# Altium schematic symbol library MainSchlib.SchLib: 236 symbols (part 2 of 2)
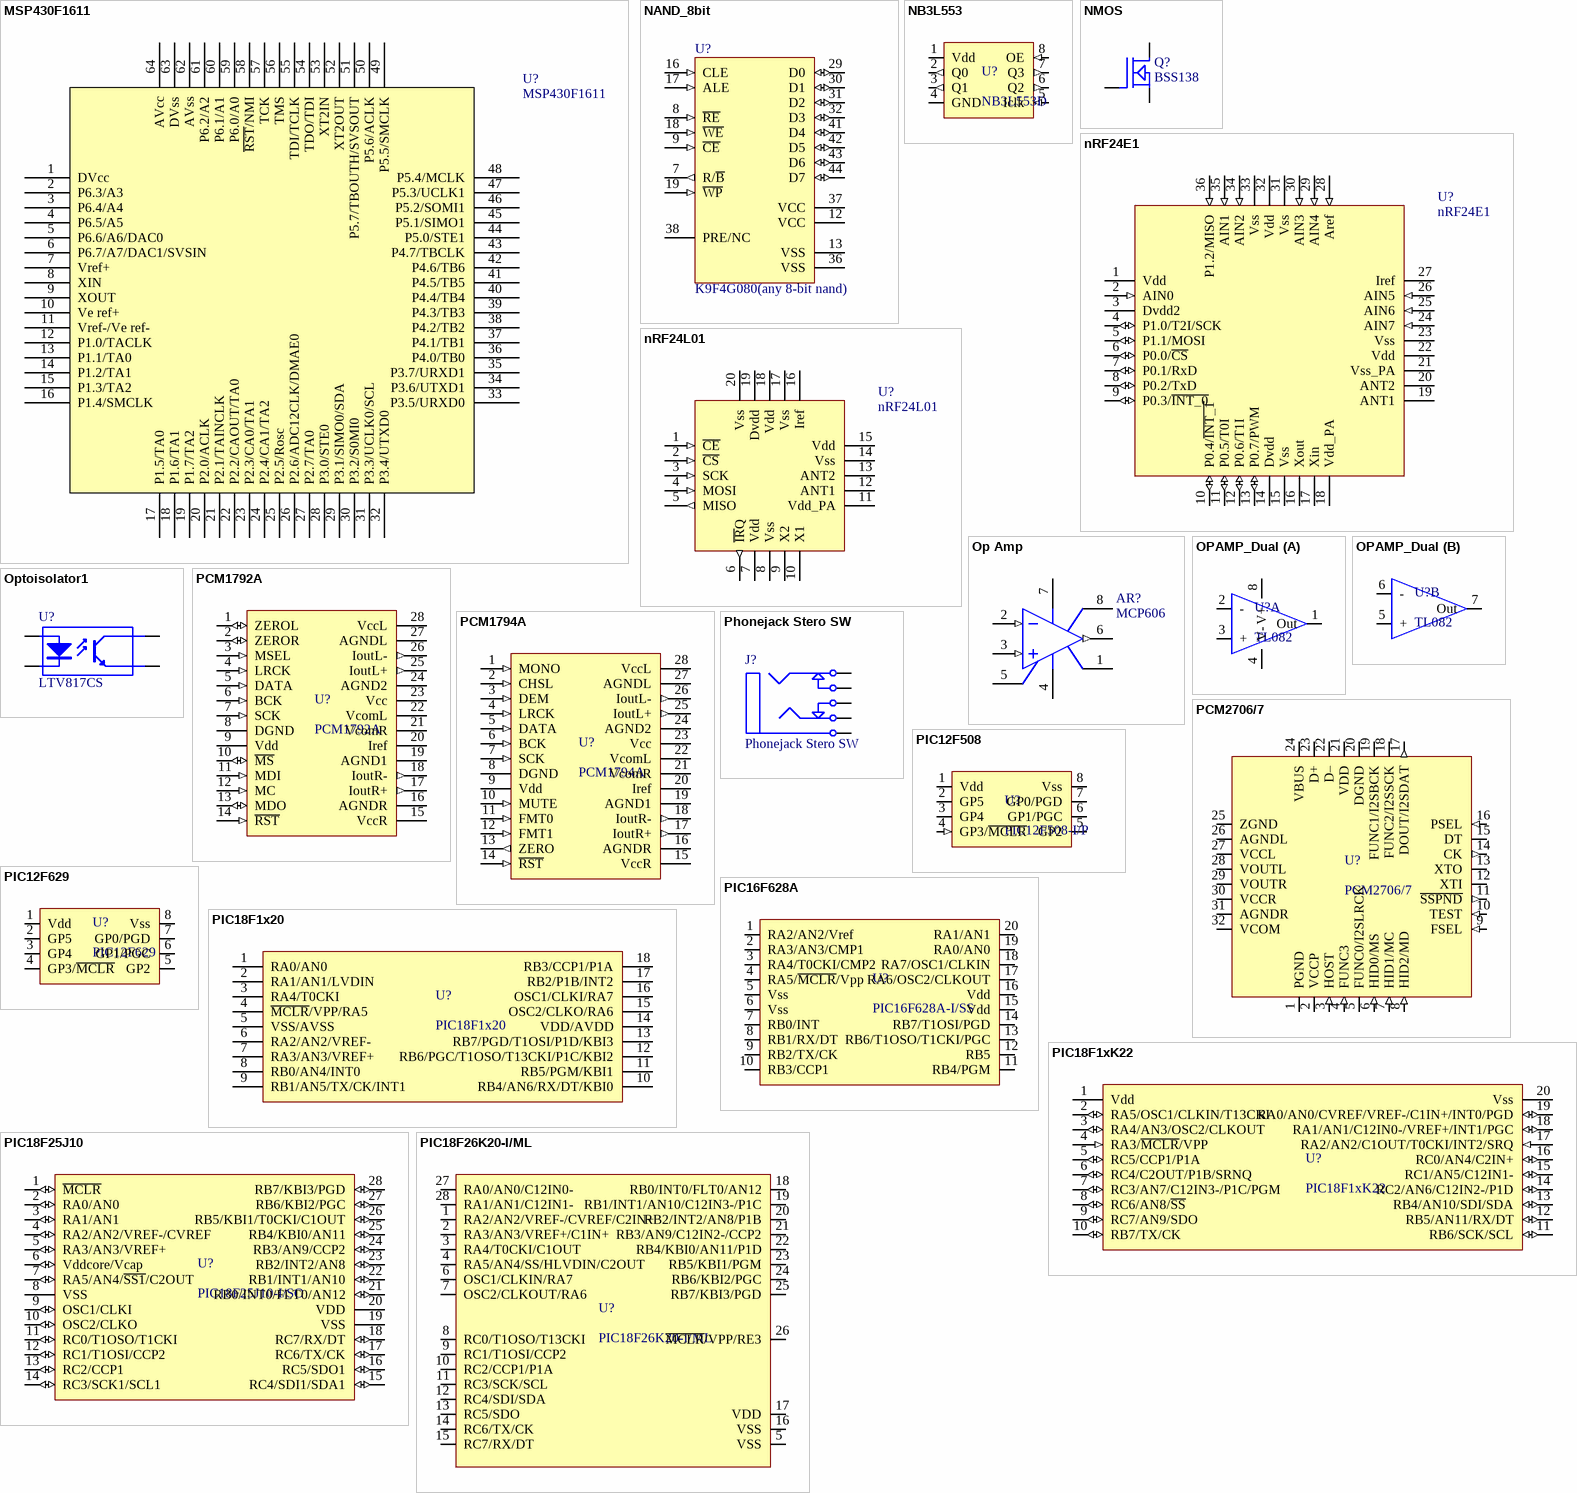
[diagram p11: symbols MSP430F1611 to PIC18F26K20-I/ML]

## PIC18F25J10
designator U?, comment PIC18F25J10-I/SO
footprint IC_SOIC-28 (for PIC18F2525-SO)
pins: 1 ~{MCLR} (io), 2 RA0/AN0 (io), 3 RA1/AN1 (io), 4 RA2/AN2/VREF-/CVREF (io), 5 RA3/AN3/VREF+ (io), 6 Vddcore/Vcap (io), 7 RA5/AN4/~{SS1}/C2OUT (io), 8 VSS (power), 9 OSC1/CLKI (io), 10 OSC2/CLKO (io), 11 RC0/T1OSO/T1CKI (io), 12 RC1/T1OSI/CCP2 (io), 13 RC2/CCP1 (io), 14 RC3/SCK1/SCL1 (io), 15 RC4/SDI1/SDA1 (io), 16 RC5/SDO1 (io), 17 RC6/TX/CK (io), 18 RC7/RX/DT (io), 19 VSS (power), 20 VDD (power), 21 RB0/INT0/FLT0/AN12 (io), 22 RB1/INT1/AN10 (io), 23 RB2/INT2/AN8 (io), 24 RB3/AN9/CCP2 (io), 25 RB4/KBI0/AN11 (io), 26 RB5/KBI1/T0CKI/C1OUT (io), 27 RB6/KBI2/PGC (io), 28 RB7/KBI3/PGD (io)

## PIC18F26K20-I/ML
designator U?
PIC18 mid-range mcu
footprint IC_QFN28-6x6
pins: 1 RA2/AN2/VREF-/CVREF/C2IN+, 2 RA3/AN3/VREF+/C1IN+, 3 RA4/T0CKI/C1OUT, 4 RA5/AN4/SS/HLVDIN/C2OUT, 5 VSS, 6 OSC1/CLKIN/RA7, 7 OSC2/CLKOUT/RA6, 8 RC0/T1OSO/T13CKI , 9 RC1/T1OSI/CCP2, 10 RC2/CCP1/P1A, 11 RC3/SCK/SCL, 12 RC4/SDI/SDA, 13 RC5/SDO, 14 RC6/TX/CK, 15 RC7/RX/DT, 16 VSS, 17 VDD, 18 RB0/INT0/FLT0/AN12, 19 RB1/INT1/AN10/C12IN3-/P1C, 20 RB2/INT2/AN8/P1B, 21 RB3/AN9/C12IN2-/CCP2, 22 RB4/KBI0/AN11/P1D, 23 RB5/KBI1/PGM, 24 RB6/KBI2/PGC, 25 RB7/KBI3/PGD, 26 ~{MCLR}/VPP/RE3, 27 RA0/AN0/C12IN0-, 28 RA1/AN1/C12IN1-

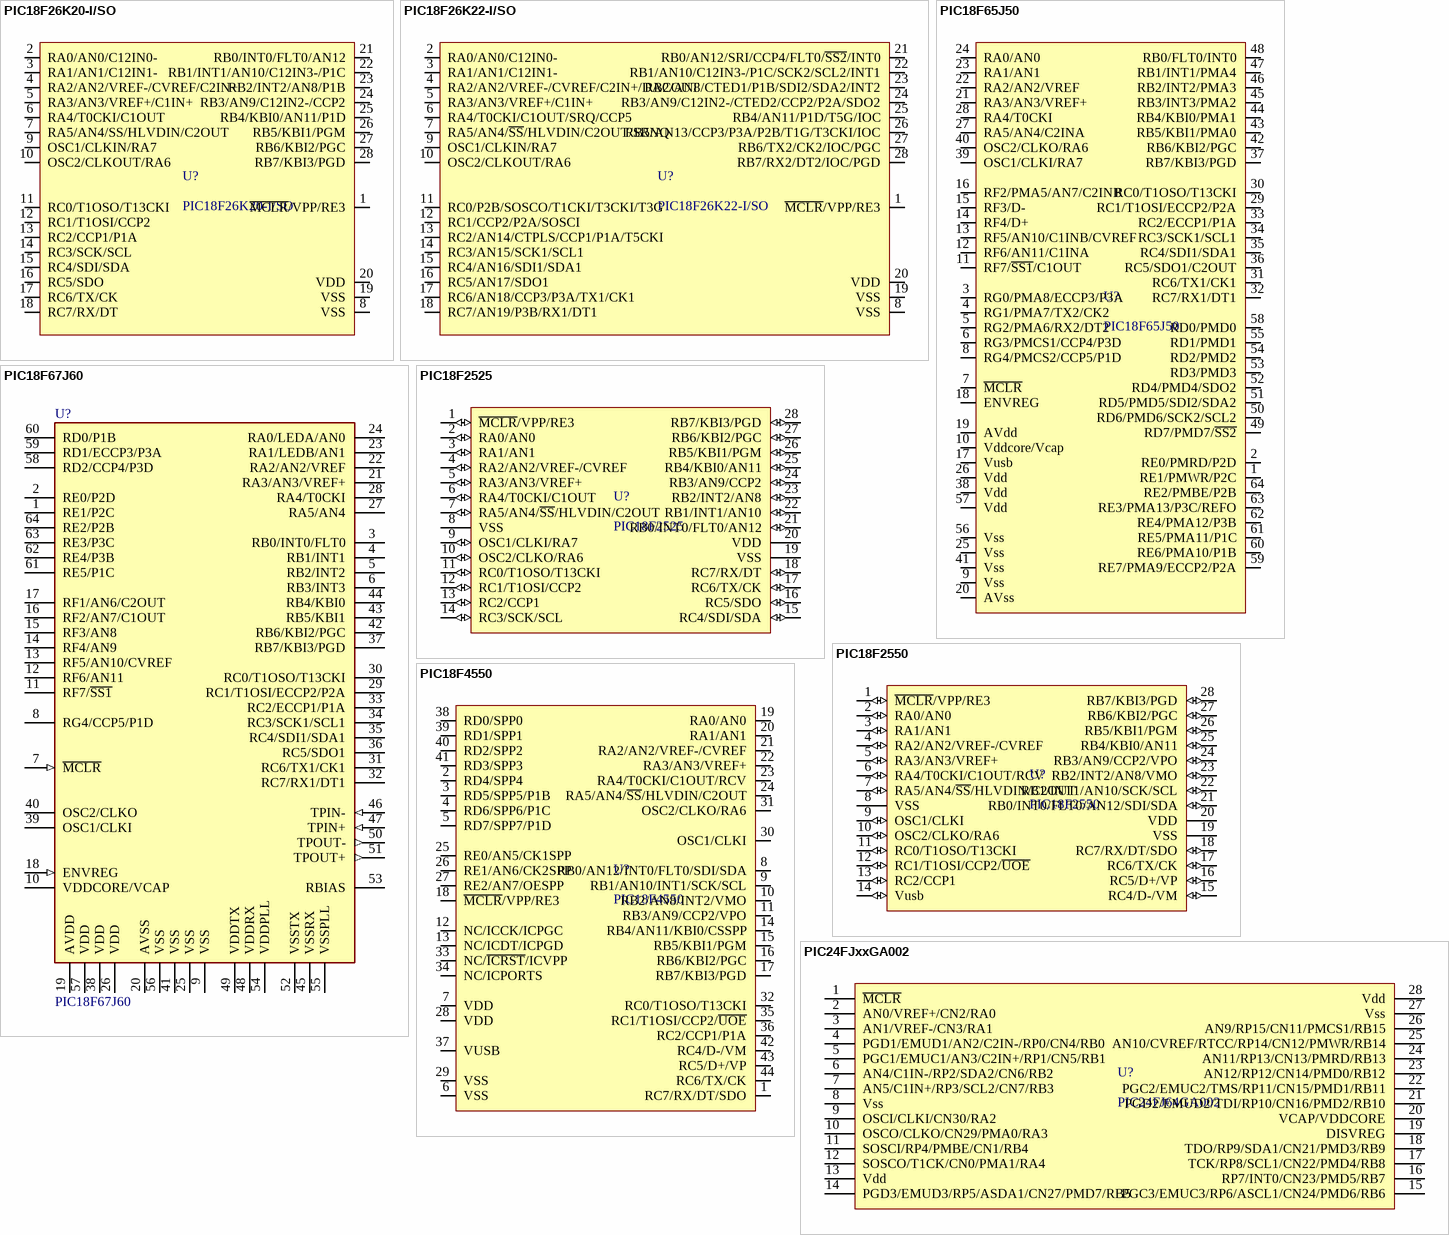
[diagram p6: symbols PIC18F26K20-I/SO to PIC24FJxxGA002]

## PIC18F26K20-I/SO
designator U?
PIC18 mid-range mcu
footprint IC_SOIC-28 (for PIC18F2525-SO)
pins: 1 ~{MCLR}/VPP/RE3, 2 RA0/AN0/C12IN0-, 3 RA1/AN1/C12IN1-, 4 RA2/AN2/VREF-/CVREF/C2IN+, 5 RA3/AN3/VREF+/C1IN+, 6 RA4/T0CKI/C1OUT, 7 RA5/AN4/SS/HLVDIN/C2OUT, 8 VSS, 9 OSC1/CLKIN/RA7, 10 OSC2/CLKOUT/RA6, 11 RC0/T1OSO/T13CKI , 12 RC1/T1OSI/CCP2, 13 RC2/CCP1/P1A, 14 RC3/SCK/SCL, 15 RC4/SDI/SDA, 16 RC5/SDO, 17 RC6/TX/CK, 18 RC7/RX/DT, 19 VSS, 20 VDD, 21 RB0/INT0/FLT0/AN12, 22 RB1/INT1/AN10/C12IN3-/P1C, 23 RB2/INT2/AN8/P1B, 24 RB3/AN9/C12IN2-/CCP2, 25 RB4/KBI0/AN11/P1D, 26 RB5/KBI1/PGM, 27 RB6/KBI2/PGC, 28 RB7/KBI3/PGD

## PIC18F26K22-I/SO
designator U?
PIC18 mid-range mcu
footprint IC_SOIC-28 (for PIC18F2525-SO)
pins: 1 ~{MCLR}/VPP/RE3, 2 RA0/AN0/C12IN0-, 3 RA1/AN1/C12IN1-, 4 RA2/AN2/VREF-/CVREF/C2IN+/DACOUT, 5 RA3/AN3/VREF+/C1IN+, 6 RA4/T0CKI/C1OUT/SRQ/CCP5, 7 RA5/AN4/~{SS}/HLVDIN/C2OUT/SRNQ, 8 VSS, 9 OSC1/CLKIN/RA7, 10 OSC2/CLKOUT/RA6, 11 RC0/P2B/SOSCO/T1CKI/T3CKI/T3G, 12 RC1/CCP2/P2A/SOSCI, 13 RC2/AN14/CTPLS/CCP1/P1A/T5CKI, 14 RC3/AN15/SCK1/SCL1, 15 RC4/AN16/SDI1/SDA1, 16 RC5/AN17/SDO1, 17 RC6/AN18/CCP3/P3A/TX1/CK1, 18 RC7/AN19/P3B/RX1/DT1, 19 VSS, 20 VDD, 21 RB0/AN12/SRI/CCP4/FLT0/~{SS2}/INT0, 22 RB1/AN10/C12IN3-/P1C/SCK2/SCL2/INT1, 23 RB2/AN8/CTED1/P1B/SDI2/SDA2/INT2, 24 RB3/AN9/C12IN2-/CTED2/CCP2/P2A/SDO2, 25 RB4/AN11/P1D/T5G/IOC, 26 RB5/AN13/CCP3/P3A/P2B/T1G/T3CKI/IOC, 27 RB6/TX2/CK2/IOC/PGC, 28 RB7/RX2/DT2/IOC/PGD

## PIC18F65J50
designator U?
footprint IC_F-QFP10X10-G64/N
pins: 1 RE1/PMWR/P2C, 2 RE0/PMRD/P2D, 3 RG0/PMA8/ECCP3/P3A, 4 RG1/PMA7/TX2/CK2, 5 RG2/PMA6/RX2/DT2, 6 RG3/PMCS1/CCP4/P3D, 7 ~{MCLR}, 8 RG4/PMCS2/CCP5/P1D, 9 Vss, 10 Vddcore/Vcap, 11 RF7/~{SS1}/C1OUT, 12 RF6/AN11/C1INA, 13 RF5/AN10/C1INB/CVREF, 14 RF4/D+, 15 RF3/D-, 16 RF2/PMA5/AN7/C2INB, 17 Vusb, 18 ENVREG, 19 AVdd, 20 AVss, 21 RA3/AN3/VREF+, 22 RA2/AN2/VREF, 23 RA1/AN1, 24 RA0/AN0, 25 Vss, 26 Vdd, 27 RA5/AN4/C2INA, 28 RA4/T0CKI, 29 RC1/T1OSI/ECCP2/P2A, 30 RC0/T1OSO/T13CKI, 31 RC6/TX1/CK1, 32 RC7/RX1/DT1, 33 RC2/ECCP1/P1A, 34 RC3/SCK1/SCL1, 35 RC4/SDI1/SDA1, 36 RC5/SDO1/C2OUT, 37 RB7/KBI3/PGD, 38 Vdd, 39 OSC1/CLKI/RA7, 40 OSC2/CLKO/RA6, 41 Vss, 42 RB6/KBI2/PGC, 43 RB5/KBI1/PMA0, 44 RB4/KBI0/PMA1, 45 RB3/INT3/PMA2, 46 RB2/INT2/PMA3, 47 RB1/INT1/PMA4, 48 RB0/FLT0/INT0, 49 RD7/PMD7/~{SS2}, 50 RD6/PMD6/SCK2/SCL2, 51 RD5/PMD5/SDI2/SDA2, 52 RD4/PMD4/SDO2, 53 RD3/PMD3, 54 RD2/PMD2, 55 RD1/PMD1, 56 Vss, 57 Vdd, 58 RD0/PMD0, 59 RE7/PMA9/ECCP2/P2A, 60 RE6/PMA10/P1B, 61 RE5/PMA11/P1C, 62 RE4/PMA12/P3B, 63 RE3/PMA13/P3C/REFO, 64 RE2/PMBE/P2B

## PIC18F67J60
designator U?
8-bit MCU
footprint IC_F-QFP10X10-G64/N
pins: 1 RE1/P2C, 2 RE0/P2D, 3 RB0/INT0/FLT0, 4 RB1/INT1, 5 RB2/INT2, 6 RB3/INT3, 7 ~{MCLR} (in), 8 RG4/CCP5/P1D, 9 VSS (power), 10 VDDCORE/VCAP (power), 11 RF7/~{SS1}, 12 RF6/AN11, 13 RF5/AN10/CVREF, 14 RF4/AN9, 15 RF3/AN8, 16 RF2/AN7/C1OUT, 17 RF1/AN6/C2OUT, 18 ENVREG (in), 19 AVDD (power), 20 AVSS (power), 21 RA3/AN3/VREF+, 22 RA2/AN2/VREF, 23 RA1/LEDB/AN1, 24 RA0/LEDA/AN0, 25 VSS (power), 26 VDD (power), 27 RA5/AN4, 28 RA4/T0CKI, 29 RC1/T1OSI/ECCP2/P2A, 30 RC0/T1OSO/T13CKI, 31 RC6/TX1/CK1, 32 RC7/RX1/DT1, 33 RC2/ECCP1/P1A, 34 RC3/SCK1/SCL1, 35 RC4/SDI1/SDA1, 36 RC5/SDO1, 37 RB7/KBI3/PGD, 38 VDD (power), 39 OSC1/CLKI, 40 OSC2/CLKO, 41 VSS (power), 42 RB6/KBI2/PGC, 43 RB5/KBI1, 44 RB4/KBI0, 45 VSSRX (power), 46 TPIN- (in), 47 TPIN+ (in), 48 VDDRX (power), 49 VDDTX (power), 50 TPOUT- (out), 51 TPOUT+ (out), 52 VSSTX (power), 53 RBIAS, 54 VDDPLL (power), 55 VSSPLL (power), 56 VSS (power), 57 VDD (power), 58 RD2/CCP4/P3D, 59 RD1/ECCP3/P3A, 60 RD0/P1B, 61 RE5/P1C, 62 RE4/P3B, 63 RE3/P3C, 64 RE2/P2B

## PIC18F2525
designator U?
footprint IC_DIP-28 (DIP28 socket)
pins: 1 ~{MCLR}/VPP/RE3 (io), 2 RA0/AN0 (io), 3 RA1/AN1 (io), 4 RA2/AN2/VREF-/CVREF (io), 5 RA3/AN3/VREF+ (io), 6 RA4/T0CKI/C1OUT (io), 7 RA5/AN4/~{SS}/HLVDIN/C2OUT (io), 8 VSS (power), 9 OSC1/CLKI/RA7 (io), 10 OSC2/CLKO/RA6 (io), 11 RC0/T1OSO/T13CKI (io), 12 RC1/T1OSI/CCP2 (io), 13 RC2/CCP1 (io), 14 RC3/SCK/SCL (io), 15 RC4/SDI/SDA (io), 16 RC5/SDO (io), 17 RC6/TX/CK (io), 18 RC7/RX/DT (io), 19 VSS (power), 20 VDD (power), 21 RB0/INT0/FLT0/AN12 (io), 22 RB1/INT1/AN10 (io), 23 RB2/INT2/AN8 (io), 24 RB3/AN9/CCP2 (io), 25 RB4/KBI0/AN11 (io), 26 RB5/KBI1/PGM (io), 27 RB6/KBI2/PGC (io), 28 RB7/KBI3/PGD (io)

## PIC18F2550
designator U?
footprint IC_SOIC-28 (for PIC18F2525-SO)
pins: 1 ~{MCLR}/VPP/RE3 (io), 2 RA0/AN0 (io), 3 RA1/AN1 (io), 4 RA2/AN2/VREF-/CVREF (io), 5 RA3/AN3/VREF+ (io), 6 RA4/T0CKI/C1OUT/RCV (io), 7 RA5/AN4/~{SS}/HLVDIN/C2OUT (io), 8 VSS (power), 9 OSC1/CLKI (io), 10 OSC2/CLKO/RA6 (io), 11 RC0/T1OSO/T13CKI (io), 12 RC1/T1OSI/CCP2/~{UOE} (io), 13 RC2/CCP1 (io), 14 Vusb (io), 15 RC4/D-/VM (io), 16 RC5/D+/VP (io), 17 RC6/TX/CK (io), 18 RC7/RX/DT/SDO (io), 19 VSS (power), 20 VDD (power), 21 RB0/INT0/FLT0/AN12/SDI/SDA (io), 22 RB1/INT1/AN10/SCK/SCL (io), 23 RB2/INT2/AN8/VMO (io), 24 RB3/AN9/CCP2/VPO (io), 25 RB4/KBI0/AN11 (io), 26 RB5/KBI1/PGM (io), 27 RB6/KBI2/PGC (io), 28 RB7/KBI3/PGD (io)

## PIC18F4550
designator U?
PIC18F4455/4550
footprint IC_TQFP48 (TQFP48 - for PIC18F4550)
pins: 1 RC7/RX/DT/SDO, 2 RD4/SPP4, 3 RD5/SPP5/P1B, 4 RD6/SPP6/P1C, 5 RD7/SPP7/P1D, 6 VSS, 7 VDD, 8 RB0/AN12/INT0/FLT0/SDI/SDA, 9 RB1/AN10/INT1/SCK/SCL, 10 RB2/AN8/INT2/VMO, 11 RB3/AN9/CCP2/VPO, 12 NC/ICCK/ICPGC, 13 NC/ICDT/ICPGD, 14 RB4/AN11/KBI0/CSSPP, 15 RB5/KBI1/PGM, 16 RB6/KBI2/PGC, 17 RB7/KBI3/PGD, 18 ~{MCLR}/VPP/RE3, 19 RA0/AN0, 20 RA1/AN1, 21 RA2/AN2/VREF-/CVREF, 22 RA3/AN3/VREF+, 23 RA4/T0CKI/C1OUT/RCV, 24 RA5/AN4/~{SS}/HLVDIN/C2OUT, 25 RE0/AN5/CK1SPP, 26 RE1/AN6/CK2SPP, 27 RE2/AN7/OESPP, 28 VDD, 29 VSS, 30 OSC1/CLKI, 31 OSC2/CLKO/RA6, 32 RC0/T1OSO/T13CKI, 33 NC/~{ICRST}/ICVPP, 34 NC/ICPORTS, 35 RC1/T1OSI/CCP2/~{UOE}, 36 RC2/CCP1/P1A, 37 VUSB, 38 RD0/SPP0, 39 RD1/SPP1, 40 RD2/SPP2, 41 RD3/SPP3, 42 RC4/D-/VM, 43 RC5/D+/VP, 44 RC6/TX/CK

## PIC24FJxxGA002
designator U?, comment PIC24FJ64GA002
footprint IC_SSOP28
pins: 1 ~{MCLR}, 2 AN0/VREF+/CN2/RA0, 3 AN1/VREF-/CN3/RA1, 4 PGD1/EMUD1/AN2/C2IN-/RP0/CN4/RB0, 5 PGC1/EMUC1/AN3/C2IN+/RP1/CN5/RB1, 6 AN4/C1IN-/RP2/SDA2/CN6/RB2, 7 AN5/C1IN+/RP3/SCL2/CN7/RB3, 8 Vss, 9 OSCI/CLKI/CN30/RA2, 10 OSCO/CLKO/CN29/PMA0/RA3, 11 SOSCI/RP4/PMBE/CN1/RB4, 12 SOSCO/T1CK/CN0/PMA1/RA4, 13 Vdd, 14 PGD3/EMUD3/RP5/ASDA1/CN27/PMD7/RB5, 15 PGC3/EMUC3/RP6/ASCL1/CN24/PMD6/RB6, 16 RP7/INT0/CN23/PMD5/RB7, 17 TCK/RP8/SCL1/CN22/PMD4/RB8, 18 TDO/RP9/SDA1/CN21/PMD3/RB9, 19 DISVREG, 20 VCAP/VDDCORE, 21 PGD2/EMUD2/TDI/RP10/CN16/PMD2/RB10, 22 PGC2/EMUC2/TMS/RP11/CN15/PMD1/RB11, 23 AN12/RP12/CN14/PMD0/RB12, 24 AN11/RP13/CN13/PMRD/RB13, 25 AN10/CVREF/RTCC/RP14/CN12/PMWR/RB14, 26 AN9/RP15/CN11/PMCS1/RB15, 27 Vss, 28 Vdd

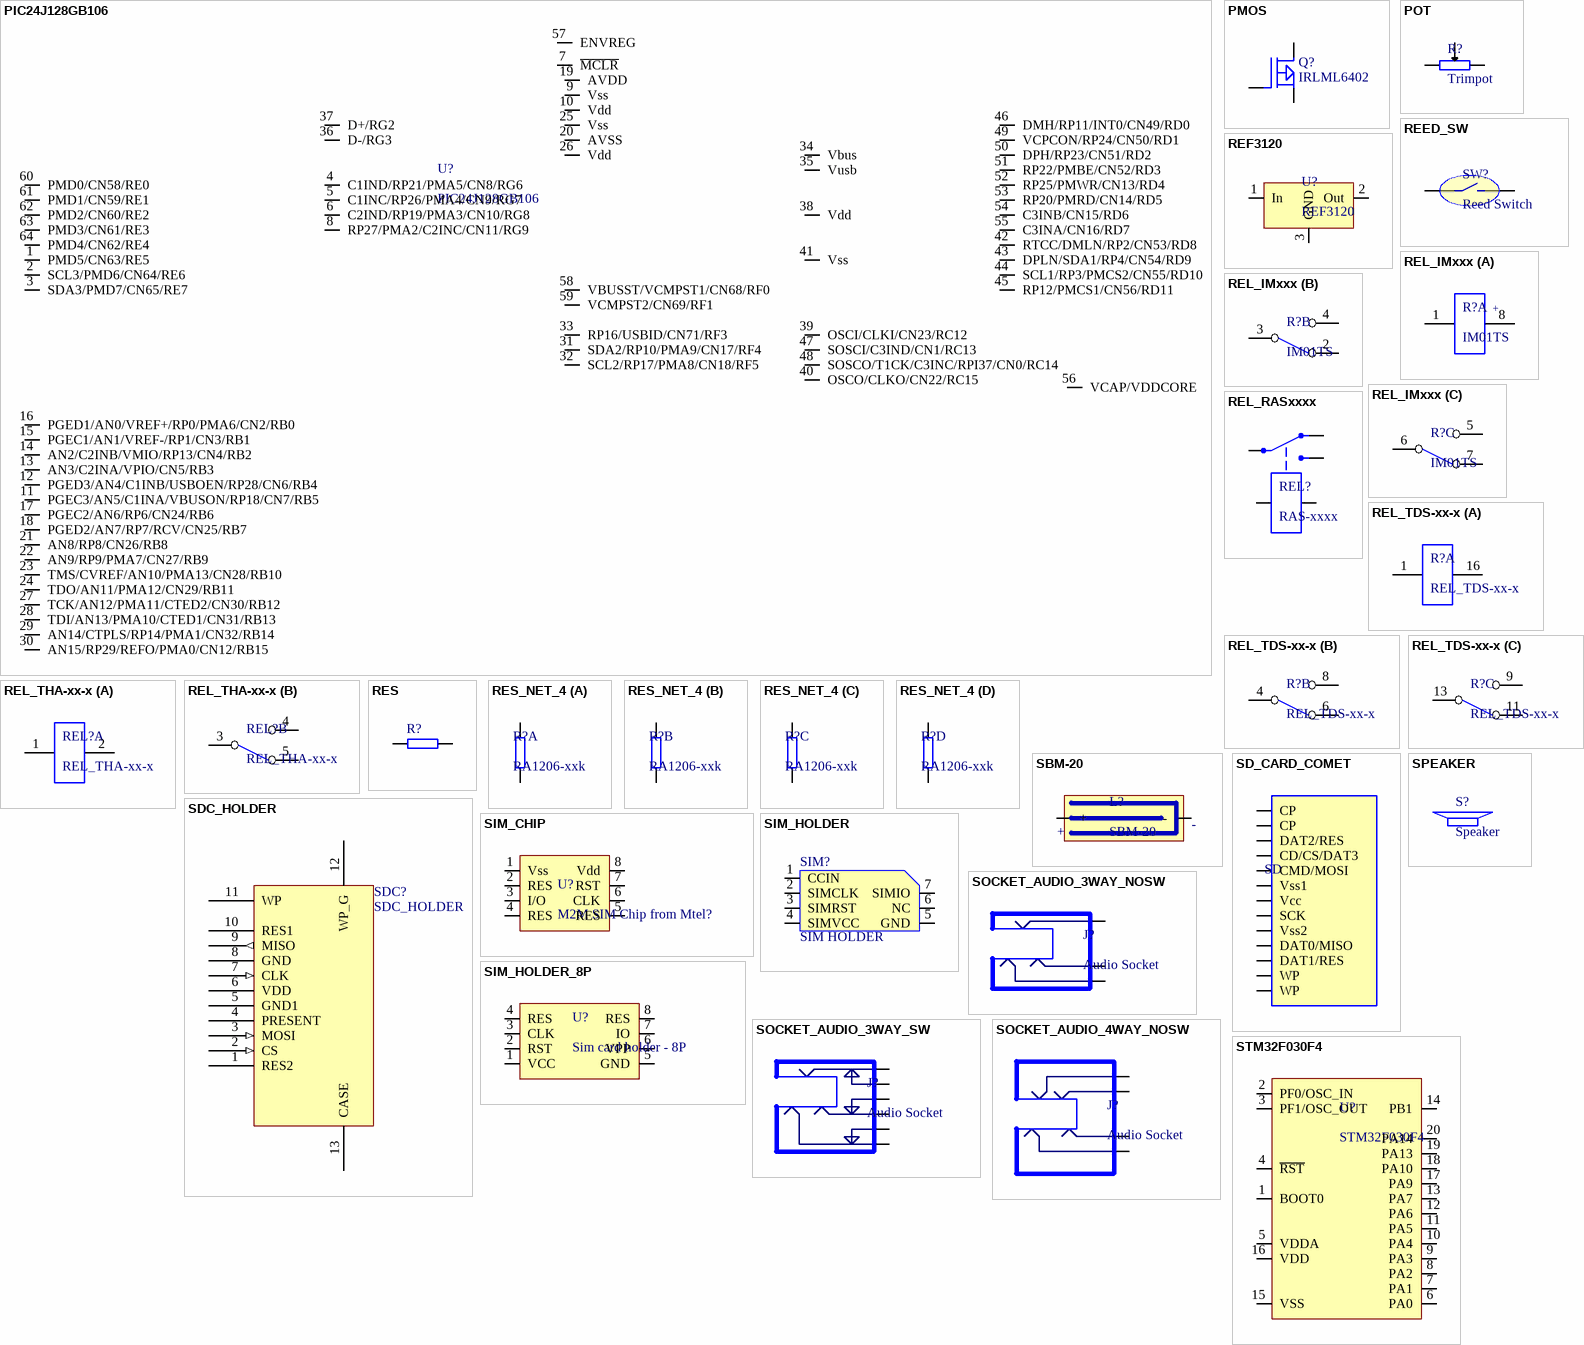
[diagram p7: symbols PIC24J128GB106 to STM32F030F4]

## PIC24J128GB106
designator U?
footprint IC_F-QFP10X10-G64/N
pins: 1 PMD5/CN63/RE5, 2 SCL3/PMD6/CN64/RE6, 3 SDA3/PMD7/CN65/RE7, 4 C1IND/RP21/PMA5/CN8/RG6, 5 C1INC/RP26/PMA4/CN9/RG7, 6 C2IND/RP19/PMA3/CN10/RG8, 7 ~{MCLR}, 8 RP27/PMA2/C2INC/CN11/RG9, 9 Vss (power), 10 Vdd (power), 11 PGEC3/AN5/C1INA/VBUSON/RP18/CN7/RB5, 12 PGED3/AN4/C1INB/USBOEN/RP28/CN6/RB4, 13 AN3/C2INA/VPIO/CN5/RB3, 14 AN2/C2INB/VMIO/RP13/CN4/RB2, 15 PGEC1/AN1/VREF-/RP1/CN3/RB1, 16 PGED1/AN0/VREF+/RP0/PMA6/CN2/RB0, 17 PGEC2/AN6/RP6/CN24/RB6, 18 PGED2/AN7/RP7/RCV/CN25/RB7, 19 AVDD (power), 20 AVSS (power), 21 AN8/RP8/CN26/RB8, 22 AN9/RP9/PMA7/CN27/RB9, 23 TMS/CVREF/AN10/PMA13/CN28/RB10, 24 TDO/AN11/PMA12/CN29/RB11, 25 Vss (power), 26 Vdd (power), 27 TCK/AN12/PMA11/CTED2/CN30/RB12, 28 TDI/AN13/PMA10/CTED1/CN31/RB13, 29 AN14/CTPLS/RP14/PMA1/CN32/RB14, 30 AN15/RP29/REFO/PMA0/CN12/RB15, 31 SDA2/RP10/PMA9/CN17/RF4, 32 SCL2/RP17/PMA8/CN18/RF5, 33 RP16/USBID/CN71/RF3, 34 Vbus, 35 Vusb, 36 D-/RG3, 37 D+/RG2, 38 Vdd (power), 39 OSCI/CLKI/CN23/RC12, 40 OSCO/CLKO/CN22/RC15, 41 Vss (power), 42 RTCC/DMLN/RP2/CN53/RD8, 43 DPLN/SDA1/RP4/CN54/RD9, 44 SCL1/RP3/PMCS2/CN55/RD10, 45 RP12/PMCS1/CN56/RD11, 46 DMH/RP11/INT0/CN49/RD0, 47 SOSCI/C3IND/CN1/RC13, 48 SOSCO/T1CK/C3INC/RPI37/CN0/RC14, 49 VCPCON/RP24/CN50/RD1, 50 DPH/RP23/CN51/RD2, 51 RP22/PMBE/CN52/RD3, 52 RP25/PMWR/CN13/RD4, 53 RP20/PMRD/CN14/RD5, 54 C3INB/CN15/RD6, 55 C3INA/CN16/RD7, 56 VCAP/VDDCORE, 57 ENVREG, 58 VBUSST/VCMPST1/CN68/RF0, 59 VCMPST2/CN69/RF1, 60 PMD0/CN58/RE0, 61 PMD1/CN59/RE1, 62 PMD2/CN60/RE2, 63 PMD3/CN61/RE3, 64 PMD4/CN62/RE4

## PMOS
designator Q?, comment IRLML6402
P-MOS
footprint TRANS_SOT-23
pins: 1 G, 2 S, 3 D

## POT
designator R?, comment Trimpot
footprint POT_PNZ10Z (Trimmer POT)
footprint POT_PNZ11Z
footprint RES_TRIM_3296W (Bourns 3296W)
pins: 1, 2, 3

## REED_SW
designator SW?, comment Reed Switch
footprint SW_REED (reed switch)
pins: 1, 2

## REF3120
designator U?
Voltage Reference
footprint TRANS_SOT-23
pins: 1 In, 2 Out, 3 GND

## REL_IMxxx
designator R?, comment IM01TS
footprint RELAY_IM01TS (Footprint not found)
part A pins: 1, 8
part B pins: 2, 3, 4
part C pins: 5, 6, 7
part A text: +

## REL_RASxxxx
designator REL?, comment RAS-xxxx
footprint RELAY_RASxxxx (Relay RAS-xx-xx)
pins: 1, 2, 3, 4, 5

## REL_TDS-xx-x
designator R?
footprint RELAY_TDS (TDS relays - SunHold)
part A pins: 1, 16
part B pins: 4, 6, 8
part C pins: 9, 11, 13

## REL_THA-xx-x
designator REL?
footprint RELAY_THA (TDS relays - SunHold)
part A pins: 1, 2
part B pins: 3, 4, 5

## RES
designator R?
Resistor
footprint 0805_1
pins: 1, 2

## RES_NET_4
designator R?, comment RA1206-xxk
footprint RES_RN_1206-4x0603
part A pins: 1, 8
part B pins: 2, 7
part C pins: 3, 6
part D pins: 4, 5

## SBM-20
designator L?
Geiger-Mueller tube
footprint MISC_SBM-20 (Geiger counter tube)
pins: 1 +, 2 -

## SD_CARD_COMET
designator SD, comment CSD-03SC  (value not drawn)
SD card socket
footprint MISC_SD_HOLDER_COMET_TOP (SD Card holder - COMET - CSD-03SC)
pins: CD/CS/DAT3, CMD/MOSI, CP1 CP, CP2 CP, DAT0/MISO, DAT1/RES, DAT2/RES, SCK, Vdd Vcc, Vss1, Vss2, WP1 WP, WP2 WP

## SDC_HOLDER
designator SDC?
footprint MISC_SDCARDHOLDER
pins: 1 RES2, 2 CS (in), 3 MOSI (in), 4 PRESENT, 5 GND1 (power), 6 VDD (power), 7 CLK (in), 8 GND (power), 9 MISO (out), 10 RES1, 11 WP, 12 WP_G, 13 CASE

## SIM_CHIP
designator U?, comment M2M SIM Chip from Mtel?
footprint IC_SIM_CHIP (M2M SIM Chip)
pins: 1 Vss (power), 2 RES (power), 3 I/O (power), 4 RES (power), 5 RES (power), 6 CLK (power), 7 RST (power), 8 Vdd (power)

## SIM_HOLDER
designator SIM?, comment SIM HOLDER
SIM Card Holder
footprint CON_SIM_HOLDER_SIDE
pins: 1 CCIN, 2 SIMCLK, 3 SIMRST, 4 SIMVCC, 5 GND, 6 NC, 7 SIMIO

## SIM_HOLDER_8P
designator U?, comment Sim card holder - 8P
Comet: GSM SIMH Plastic Hinge 8p
footprint CON_SIMH_HINGE (for 115B-BAA0-R01)
pins: 1 VCC, 2 RST, 3 CLK, 4 RES, 5 GND, 6 VPP, 7 IO, 8 RES

## SOCKET_AUDIO_3WAY_NOSW
designator J?, comment Audio Socket
footprint CON_MULTICOMP-MJ4435-R (3.5mm Phono jack, PCB, SMD)
pins: 1 GND, 2 R, 3 L

## SOCKET_AUDIO_3WAY_SW
designator J?, comment Audio Socket
footprint CON_Schurter4803.2330 (1/4in audio socket)
footprint CON_AMPHENOL_ACJS (1/4in audio socket)
pins: 1 L, 2 R, 3 GND, 4 GND, 5 R, 6 L

## SOCKET_AUDIO_4WAY_NOSW
designator J?, comment Audio Socket
pins: 2 R, 4 GND, 5 R, 6 L

## SPEAKER
designator S?, comment Speaker
footprint MISC_SPKR_30x70 (Speaker 30mmX70mm)

## STM32F030F4
designator U?
Cortex-M0 MCU
footprint IC_TSSOP-20
footprint Model Name (Footprint not found)
pins: 1 BOOT0, 2 PF0/OSC_IN, 3 PF1/OSC_OUT, 4 ~{RST}, 5 VDDA, 6 PA0, 7 PA1, 8 PA2, 9 PA3, 10 PA4, 11 PA5, 12 PA6, 13 PA7, 14 PB1, 15 VSS, 16 VDD, 17 PA9, 18 PA10, 19 PA13, 20 PA14

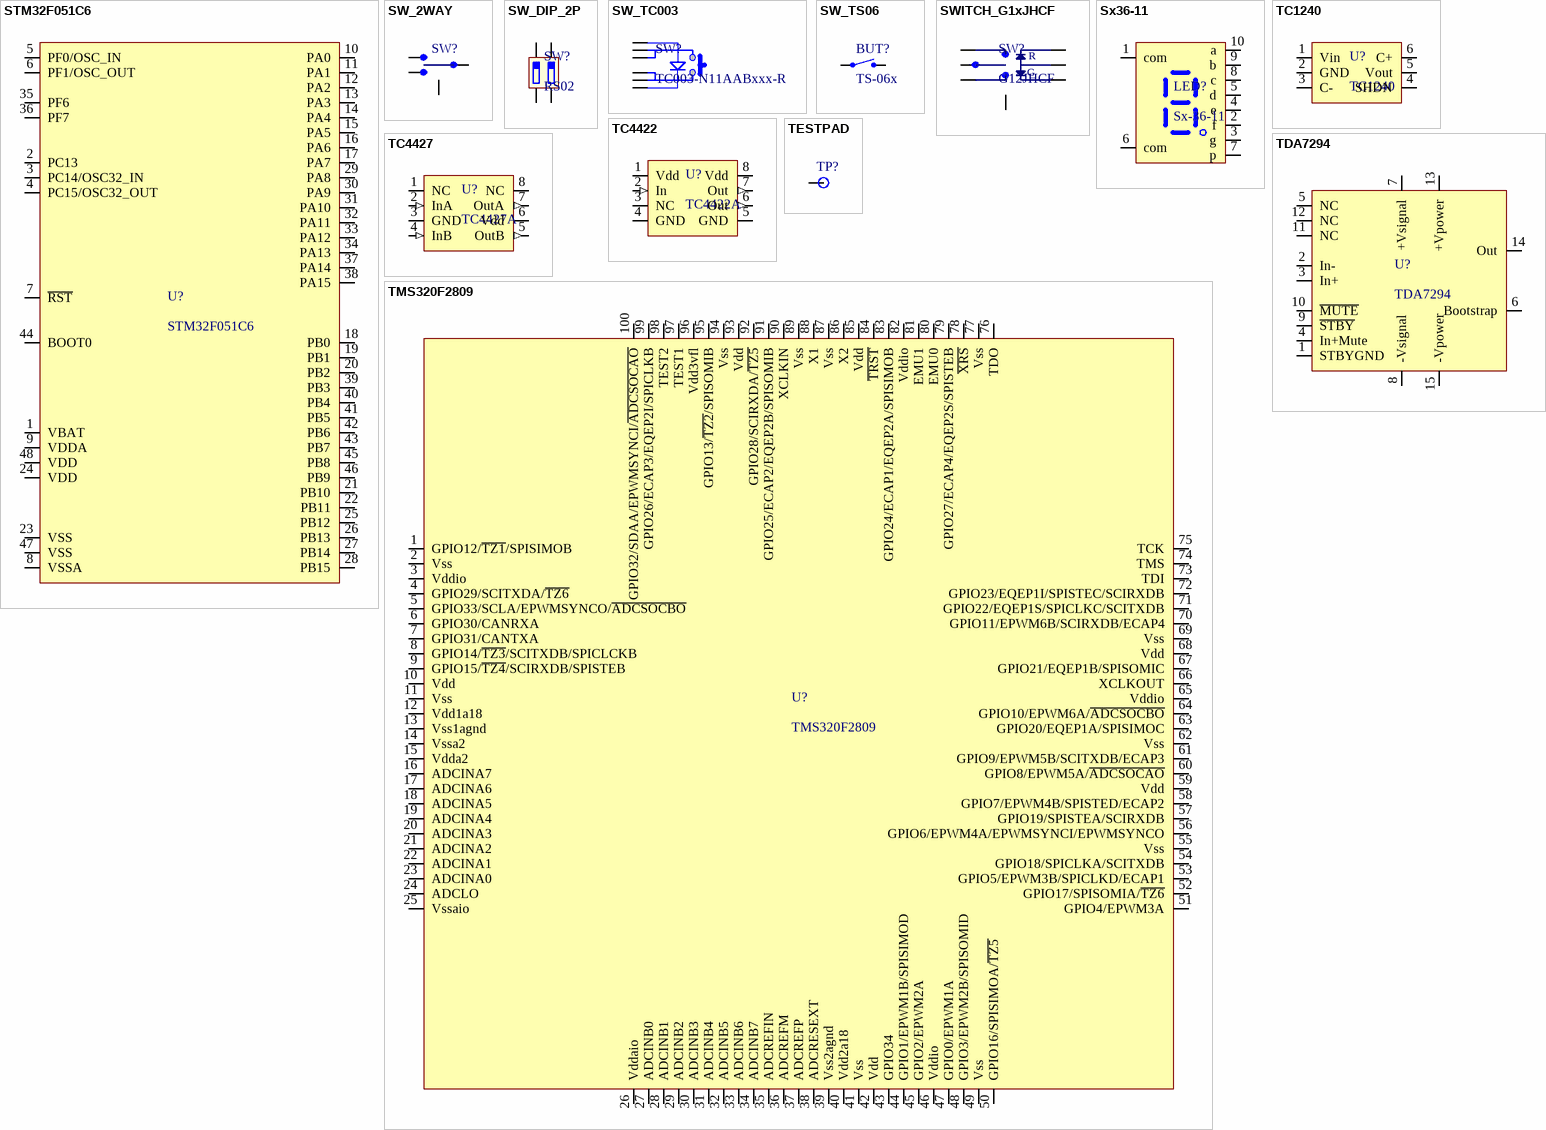
[diagram p8: symbols STM32F051C6 to TMS320F2809]

## STM32F051C6
designator U?
footprint IC_LQFP48 (for MC9S12C64)
pins: 1 VBAT (power), 2 PC13, 3 PC14/OSC32_IN, 4 PC15/OSC32_OUT, 5 PF0/OSC_IN, 6 PF1/OSC_OUT, 7 ~{RST}, 8 VSSA (power), 9 VDDA (power), 10 PA0, 11 PA1, 12 PA2, 13 PA3, 14 PA4, 15 PA5, 16 PA6, 17 PA7, 18 PB0, 19 PB1, 20 PB2, 21 PB10, 22 PB11, 23 VSS (power), 24 VDD (power), 25 PB12, 26 PB13, 27 PB14, 28 PB15, 29 PA8, 30 PA9, 31 PA10, 32 PA11, 33 PA12, 34 PA13, 35 PF6, 36 PF7, 37 PA14, 38 PA15, 39 PB3, 40 PB4, 41 PB5, 42 PB6, 43 PB7, 44 BOOT0, 45 PB8, 46 PB9, 47 VSS (power), 48 VDD (power)

## SW_2WAY
designator SW?, comment SW  (value not drawn)
footprint SW_250VAC1.5A
footprint SW_250VAC3A
pins: 0, 1, 2, 3

## SW_DIP_2P
designator SW?, comment RS02
footprint IC_DIP-4 (DIP4)
pins: 1, 2, 3, 4

## SW_TC003
designator SW?, comment TC003-N11AABxxx-R
Push-button with led
footprint SW_TC003 (Push-button with led)
pins: 1 (power), 2 (power), 3 (power), 4 (power), 5 (power), 6 (power)

## SW_TS06
designator BUT?, comment TS-06x
Tactile push-button
footprint BUT_6x6 (TS-06)
footprint BUT_6x6-SMD
footprint BUT_12x12 (Tactile button 12x12)
pins: 1, 2

## SWITCH_G1xJHCF
designator SW?, comment G12JHCF
toggle switch with illmumination
footprint SW_G12JHCF (G12JHCF)
pins: 1, 2, 3, 4, 5, 6, 7
text: R; G

## Sx36-11
designator LED?, comment Sx-36-11
footprint LED_Sx-36-11 (for SC-36-11, SA-36-11 led indicators)
pins: 1 com, 2 f, 3 g, 4 e, 5 d, 6 com, 7 p, 8 c, 9 b, 10 a

## TC1240
designator U?
footprint IC_SOT23-6 (for MCP1640)
pins: 1 Vin, 2 GND, 3 C-, 4 SHDN, 5 Vout, 6 C+

## TC4422
designator U?, comment TC4422A
footprint IC_SO-8
pins: 1 Vdd (power), 2 In (in), 3 NC, 4 GND, 5 GND (power), 6 Out (out), 7 Out (out), 8 Vdd (power)

## TC4427
designator U?, comment TC4427A
footprint IC_SO-8
pins: 1 NC, 2 InA (in), 3 GND (power), 4 InB (in), 5 OutB (out), 6 Vdd (power), 7 OutA (out), 8 NC

## TDA7294
designator U?
100W DMOS amplifier
footprint IC_Multiwatt15V (for TDA729[3;4])
pins: 1 STBYGND, 2 In-, 3 In+, 4 In+Mute, 5 NC, 6 Bootstrap, 7 +Vsignal, 8 -Vsignal, 9 ~{STBY}, 10 ~{MUTE}, 11 NC, 12 NC, 13 +Vpower, 14 Out, 15 -Vpower

## TESTPAD
designator TP?  (value not drawn)
footprint MISC_PAD-36/65
footprint MISC_PAD-0/65
pins: 1

## TMS320F2809
designator U?
footprint IC_LQFP-100 (DM9000/AT91SAM7X)
pins: 1 GPIO12/~{TZ1}/SPISIMOB, 2 Vss (power), 3 Vddio (power), 4 GPIO29/SCITXDA/~{TZ6}, 5 GPIO33/SCLA/EPWMSYNCO/~{ADCSOCBO}, 6 GPIO30/CANRXA, 7 GPIO31/CANTXA, 8 GPIO14/~{TZ3}/SCITXDB/SPICLCKB, 9 GPIO15/~{TZ4}/SCIRXDB/SPISTEB, 10 Vdd (power), 11 Vss (power), 12 Vdd1a18 (power), 13 Vss1agnd (power), 14 Vssa2 (power), 15 Vdda2, 16 ADCINA7, 17 ADCINA6, 18 ADCINA5, 19 ADCINA4, 20 ADCINA3, 21 ADCINA2, 22 ADCINA1, 23 ADCINA0, 24 ADCLO, 25 Vssaio (power), 26 Vddaio (power), 27 ADCINB0, 28 ADCINB1, 29 ADCINB2, 30 ADCINB3, 31 ADCINB4, 32 ADCINB5, 33 ADCINB6, 34 ADCINB7, 35 ADCREFIN, 36 ADCREFM, 37 ADCREFP, 38 ADCRESEXT, 39 Vss2agnd (power), 40 Vdd2a18 (power), 41 Vss (power), 42 Vdd (power), 43 GPIO34, 44 GPIO1/EPWM1B/SPISIMOD, 45 GPIO2/EPWM2A, 46 Vddio (power), 47 GPIO0/EPWM1A, 48 GPIO3/EPWM2B/SPISOMID, 49 Vss (power), 50 GPIO16/SPISIMOA/~{TZ5}, 51 GPIO4/EPWM3A, 52 GPIO17/SPISOMIA/~{TZ6}, 53 GPIO5/EPWM3B/SPICLKD/ECAP1, 54 GPIO18/SPICLKA/SCITXDB, 55 Vss (power), 56 GPIO6/EPWM4A/EPWMSYNCI/EPWMSYNCO, 57 GPIO19/SPISTEA/SCIRXDB, 58 GPIO7/EPWM4B/SPISTED/ECAP2, 59 Vdd (power), 60 GPIO8/EPWM5A/~{ADCSOCAO}, 61 GPIO9/EPWM5B/SCITXDB/ECAP3, 62 Vss (power), 63 GPIO20/EQEP1A/SPISIMOC, 64 GPIO10/EPWM6A/~{ADCSOCBO}, 65 Vddio (power), 66 XCLKOUT, 67 GPIO21/EQEP1B/SPISOMIC, 68 Vdd (power), 69 Vss (power), 70 GPIO11/EPWM6B/SCIRXDB/ECAP4, 71 GPIO22/EQEP1S/SPICLKC/SCITXDB, 72 GPIO23/EQEP1I/SPISTEC/SCIRXDB, 73 TDI, 74 TMS, 75 TCK, 76 TDO, 77 Vss (power), 78 ~{XRS}, 79 GPIO27/ECAP4/EQEP2S/SPISTEB, 80 EMU0, 81 EMU1, 82 Vddio (power), 83 GPIO24/ECAP1/EQEP2A/SPISIMOB, 84 ~{TRST}, 85 Vdd (power), 86 X2, 87 Vss (power), 88 X1, 89 Vss (power), 90 XCLKIN, 91 GPIO25/ECAP2/EQEP2B/SPISOMIB, 92 GPIO28/SCIRXDA/~{TZ5}, 93 Vdd (power), 94 Vss (power), 95 GPIO13/~{TZ2}/SPISOMIB, 96 Vdd3vfl (power), 97 TEST1, 98 TEST2, 99 GPIO26/ECAP3/EQEP2I/SPICLKB, 100 GPIO32/SDAA/EPWMSYNCI/~{ADCSOCAO}

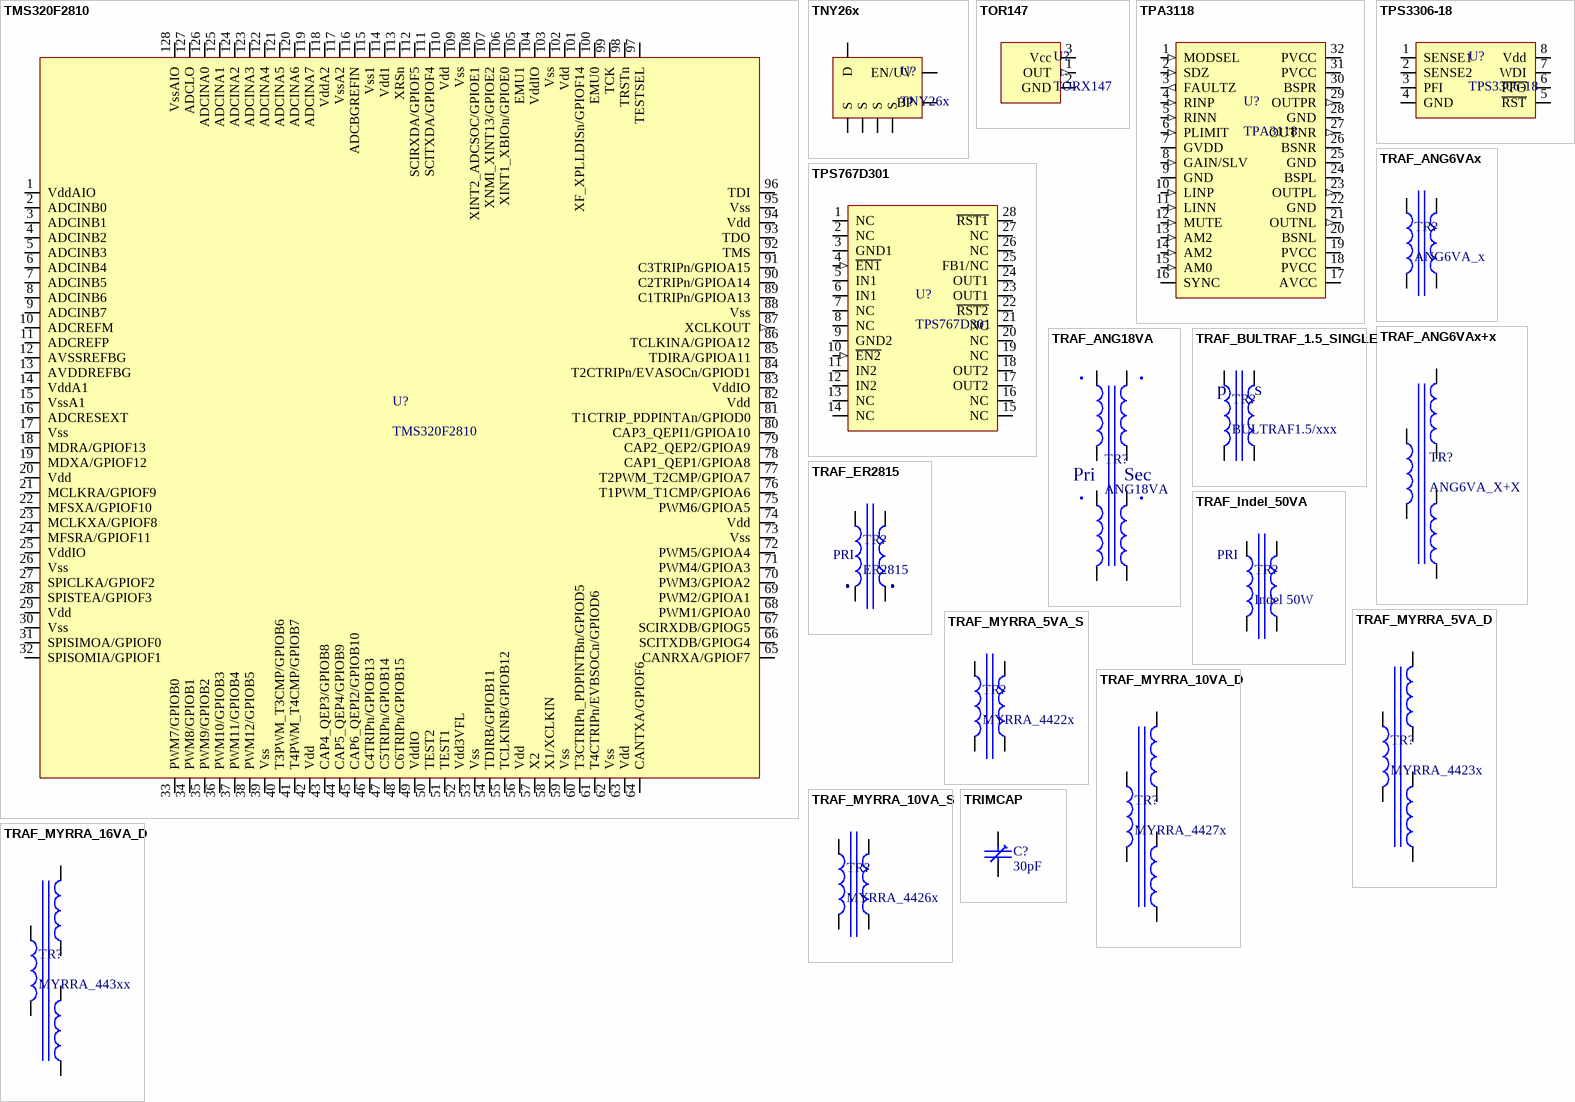
[diagram p9: symbols TMS320F2810 to TRIMCAP]

## TMS320F2810
designator U?
footprint IC_PQFP-128 (for TMS320F2810)
pins: 1 VddAIO (power), 2 ADCINB0, 3 ADCINB1, 4 ADCINB2, 5 ADCINB3, 6 ADCINB4, 7 ADCINB5, 8 ADCINB6, 9 ADCINB7, 10 ADCREFM, 11 ADCREFP, 12 AVSSREFBG, 13 AVDDREFBG, 14 VddA1 (power), 15 VssA1 (power), 16 ADCRESEXT, 17 Vss (power), 18 MDRA/GPIOF13 (io), 19 MDXA/GPIOF12 (io), 20 Vdd (power), 21 MCLKRA/GPIOF9 (io), 22 MFSXA/GPIOF10 (io), 23 MCLKXA/GPIOF8 (io), 24 MFSRA/GPIOF11 (io), 25 VddIO (power), 26 Vss, 27 SPICLKA/GPIOF2 (io), 28 SPISTEA/GPIOF3 (io), 29 Vdd (power), 30 Vss (power), 31 SPISIMOA/GPIOF0 (io), 32 SPISOMIA/GPIOF1 (io), 33 PWM7/GPIOB0 (io), 34 PWM8/GPIOB1 (io), 35 PWM9/GPIOB2 (io), 36 PWM10/GPIOB3 (io), 37 PWM11/GPIOB4 (io), 38 PWM12/GPIOB5 (io), 39 Vss (power), 40 T3PWM_T3CMP/GPIOB6 (io), 41 T4PWM_T4CMP/GPIOB7 (io), 42 Vdd (power), 43 CAP4_QEP3/GPIOB8 (io), 44 CAP5_QEP4/GPIOB9 (io), 45 CAP6_QEPI2/GPIOB10 (io), 46 C4TRIPn/GPIOB13 (io), 47 C5TRIPn/GPIOB14 (io), 48 C6TRIPn/GPIOB15 (io), 49 VddIO (power), 50 TEST2, 51 TEST1, 52 Vdd3VFL (power), 53 Vss (power), 54 TDIRB/GPIOB11 (io), 55 TCLKINB/GPIOB12 (io), 56 Vdd (power), 57 X2, 58 X1/XCLKIN, 59 Vss (power), 60 T3CTRIPn_PDPINTBn/GPIOD5 (io), 61 T4CTRIPn/EVBSOCn/GPIOD6 (io), 62 Vss (power), 63 Vdd (power), 64 CANTXA/GPIOF6 (io), 65 CANRXA/GPIOF7 (io), 66 SCITXDB/GPIOG4 (io), 67 SCIRXDB/GPIOG5 (io), 68 PWM1/GPIOA0 (io), 69 PWM2/GPIOA1 (io), 70 PWM3/GPIOA2 (io), 71 PWM4/GPIOA3 (io), 72 PWM5/GPIOA4 (io), 73 Vss (power), 74 Vdd (power), 75 PWM6/GPIOA5 (io), 76 T1PWM_T1CMP/GPIOA6 (io), 77 T2PWM_T2CMP/GPIOA7 (io), 78 CAP1_QEP1/GPIOA8 (io), 79 CAP2_QEP2/GPIOA9 (io), 80 CAP3_QEPI1/GPIOA10 (io), 81 T1CTRIP_PDPINTAn/GPIOD0 (io), 82 Vdd (power), 83 VddIO (power), 84 T2CTRIPn/EVASOCn/GPIOD1 (io), 85 TDIRA/GPIOA11 (io), 86 TCLKINA/GPIOA12 (io), 87 XCLKOUT (out), 88 Vss (power), 89 C1TRIPn/GPIOA13 (io), 90 C2TRIPn/GPIOA14 (io), 91 C3TRIPn/GPIOA15 (io), 92 TMS, 93 TDO, 94 Vdd (power), 95 Vss (power), 96 TDI, 97 TESTSEL, 98 TRSTn, 99 TCK, 100 EMU0, 101 XF_XPLLDISn/GPIOF14 (io), 102 Vdd (power), 103 Vss (power), 104 VddIO (power), 105 EMU1, 106 XINT1_XBIOn/GPIOE0 (io), 107 XNMI_XINT13/GPIOE2 (io), 108 XINT2_ADCSOC/GPIOE1 (io), 109 Vss (power), 110 Vdd (power), 111 SCITXDA/GPIOF4 (io), 112 SCIRXDA/GPIOF5 (io), 113 XRSn (oc), 114 Vdd1 (power), 115 Vss1 (power), 116 ADCBGREFIN, 117 VssA2 (power), 118 VddA2 (power), 119 ADCINA7, 120 ADCINA6, 121 ADCINA5, 122 ADCINA4, 123 ADCINA3, 124 ADCINA2, 125 ADCINA1, 126 ADCINA0, 127 ADCLO (power), 128 VssAIO (power)

## TNY26x
designator U?
TinySwitch-II SMPS
footprint IC_DIP-8B (for TNY26x)
pins: 1 BP, 2 S, 3 S, 4 EN/UV, 5 D, 7 S, 8 S

## TOR147
designator U?, comment TORX147
TOSlink optical receiver
footprint CON_TORX147 (TOSLINK receiver)
pins: 1 OUT (out), 2 GND (power), 3 Vcc (power)

## TPA3118
designator U?
class-d amplifier
footprint IC_R-PDSO-G32 (for TPA3118)
pins: 1 MODSEL (in), 2 SDZ (in), 3 FAULTZ (out), 4 RINP (in), 5 RINN (in), 6 PLIMIT (in), 7 GVDD, 8 GAIN/SLV (in), 9 GND (power), 10 LINP (in), 11 LINN (in), 12 MUTE (in), 13 AM2 (in), 14 AM2 (in), 15 AM0 (in), 16 SYNC (io), 17 AVCC (power), 18 PVCC (power), 19 PVCC (power), 20 BSNL, 21 OUTNL (out), 22 GND (power), 23 OUTPL (out), 24 BSPL, 25 GND (power), 26 BSNR, 27 OUTNR (out), 28 GND (power), 29 OUTPR (out), 30 BSPR, 31 PVCC (power), 32 PVCC (power)

## TPS767D301
designator U?
Dual LDO
footprint IC_PDSO-G28 (For TPS767D301)
pins: 1 NC, 2 NC, 3 GND1 (power), 4 ~{EN1} (in), 5 IN1 (power), 6 IN1 (power), 7 NC, 8 NC, 9 GND2 (power), 10 ~{EN2} (in), 11 IN2 (power), 12 IN2 (power), 13 NC, 14 NC, 15 NC, 16 NC, 17 OUT2 (power), 18 OUT2 (power), 19 NC, 20 NC, 21 NC, 22 ~{RST2} (oc), 23 OUT1 (power), 24 OUT1 (power), 25 FB1/NC, 26 NC, 27 NC, 28 ~{RST1} (oc)

## TPS3306-18
designator U?
Dual voltage supervisor and watchdog
footprint IC_SO-8
pins: 1 SENSE1, 2 SENSE2, 3 PFI, 4 GND, 5 ~{RST}, 6 ~{PFO}, 7 WDI, 8 Vdd

## TRAF_ANG6VAx
designator TR?, comment ANG6VA_x
footprint ANG6VA (Transformer ANG 6VA)
pins: 1, 5, 7, 9

## TRAF_ANG6VAx+x
designator TR?, comment ANG6VA_X+X
footprint ANG6VA (Transformer ANG 6VA)
pins: 1, 5, 6, 7, 9, 10

## TRAF_ANG18VA
designator TR?, comment ANG18VA
footprint ANG18_24VA
pins: 1, 4, 5, 8, 9, 11, 14, 16
text: Pri; Sec

## TRAF_BULTRAF_1.5_SINGLE
designator TR?, comment BULTRAF1.5/xxx
footprint BULTRAF_1.5VA (Bultraf transformer 1.5VA)
pins: 1, 5, 7, 9
text: p; s

## TRAF_ER2815
designator TR?, comment ER2815
footprint TRAF_ER2815 (Pulse transformer for TNY26x)
pins: 1, 4, 5, 8
text: PRI

## TRAF_Indel_50VA
designator TR?, comment Indel 50W
footprint TRAF_INDEL_50TOR01_1
pins: 1, 2, 3, 4
text: PRI

## TRAF_MYRRA_5VA_D
designator TR?, comment MYRRA_4423x
footprint TRAF_MYRRA_5VA (Transformer, Myrra, 5VA)
pins: 1, 5, 6, 7, 9, 10

## TRAF_MYRRA_5VA_S
designator TR?, comment MYRRA_4422x
footprint TRAF_MYRRA_5VA (Transformer, Myrra, 5VA)
pins: 1, 5, 7, 9

## TRAF_MYRRA_10VA_D
designator TR?, comment MYRRA_4427x
footprint TRAF_MYRRA_10VA (Transformer, Myrra, 10VA)
pins: 1, 6, 7, 8, 11, 12

## TRAF_MYRRA_10VA_S
designator TR?, comment MYRRA_4426x
footprint TRAF_MYRRA_10VA (Transformer, Myrra, 10VA)
pins: 1, 6, 8, 11

## TRAF_MYRRA_16VA_D
designator TR?, comment MYRRA_443xx
footprint TRAF_MYRRA_16VA (Transformer, Myrra, 16VA)
pins: 1, 7, 8, 9, 13, 14

## TRIMCAP
designator C?, comment 30pF
Capacitor
footprint CAP_TRIM_CVN6xx (TrimCap CVN6xx)
pins: 1, 2

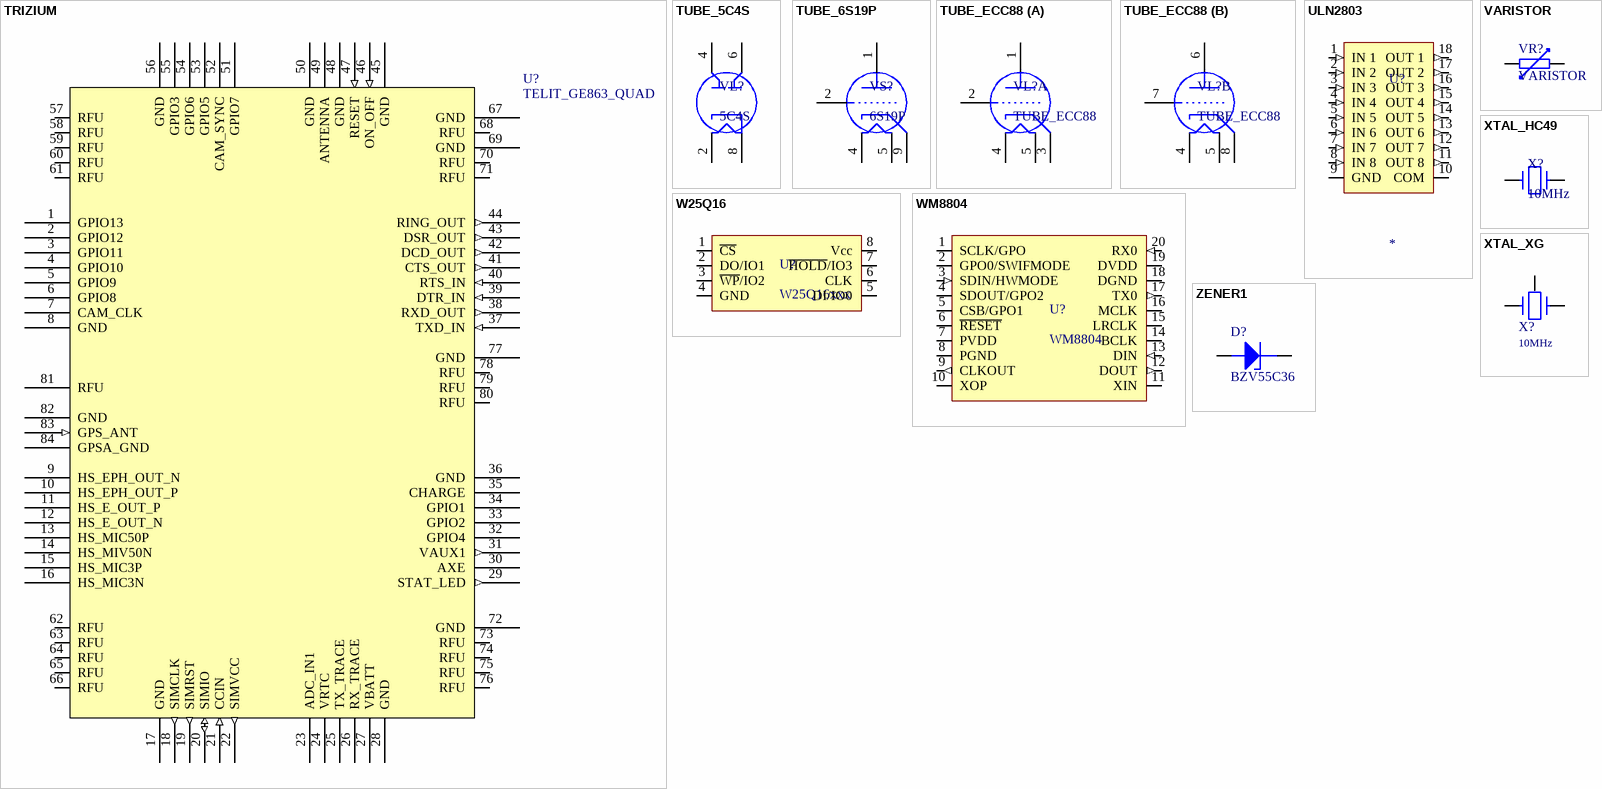
[diagram p10: symbols TRIZIUM to ZENER1]

## TRIZIUM
designator U?, comment TELIT_GE863_QUAD
footprint MISC_GD863GPS
pins: 1 GPIO13, 2 GPIO12, 3 GPIO11, 4 GPIO10, 5 GPIO9, 6 GPIO8, 7 CAM_CLK, 8 GND (power), 9 HS_EPH_OUT_N, 10 HS_EPH_OUT_P, 11 HS_E_OUT_P, 12 HS_E_OUT_N, 13 HS_MIC50P, 14 HS_MIV50N, 15 HS_MIC3P, 16 HS_MIC3N, 17 GND (power), 18 SIMCLK (out), 19 SIMRST (out), 20 SIMIO (io), 21 CCIN (in), 22 SIMVCC (out), 23 ADC_IN1, 24 VRTC, 25 TX_TRACE, 26 RX_TRACE, 27 VBATT (power), 28 GND (power), 29 STAT_LED (out), 30 AXE, 31 VAUX1 (out), 32 GPIO4, 33 GPIO2, 34 GPIO1, 35 CHARGE (power), 36 GND (power), 37 TXD_IN (in), 38 RXD_OUT (out), 39 DTR_IN (in), 40 RTS_IN (in), 41 CTS_OUT (out), 42 DCD_OUT (out), 43 DSR_OUT (out), 44 RING_OUT (out), 45 GND (power), 46 ON_OFF (in), 47 RESET (in), 48 GND (power), 49 ANTENNA, 50 GND (power), 51 GPIO7, 52 CAM_SYNC, 53 GPIO5, 54 GPIO6, 55 GPIO3, 56 GND (power), 57 RFU, 58 RFU, 59 RFU, 60 RFU, 61 RFU, 62 RFU, 63 RFU, 64 RFU, 65 RFU, 66 RFU, 67 GND (power), 68 RFU, 69 GND (power), 70 RFU, 71 RFU, 72 GND (power), 73 RFU, 74 RFU, 75 RFU, 76 RFU, 77 GND (power), 78 RFU, 79 RFU, 80 RFU, 81 RFU, 82 GND (power), 83 GPS_ANT (in), 84 GPSA_GND (power)

## TUBE_5C4S
designator VL?, comment 5C4S
double kenotron
footprint MISC_TUBE_SOCKET_8pin
pins: 2 FILAMENT1, 4 Anode1, 6 Anode2, 8 Katode

## TUBE_6S19P
designator VS?, comment 6S19P
vacuum tube
footprint MISC_TUBE_SOCKET_9pin
pins: 1 PLATE, 2 GRID, 3 PLATE, 4 FILAMENT1, 5 FILAMENT2, 6 PLATE, 7 GRID, 8 PLATE, 9 CATHODE

## TUBE_ECC88
designator VL?
double triode vacuum tube
footprint MISC_TUBE_SOCKET_9pin
part A pins: 1 PLATE, 2 GRID, 3 CATHODE, 4 FILAMENT1, 5 FILAMENT2
part B pins: 4 FILAMENT1, 5 FILAMENT1, 6 PLATE, 7 GRID, 8 CATHODE

## ULN2803
designator U?
HIGH-VOLTAGE,HIGH-CURRENT DARLINTON ARRAYS
footprint IC_SOIC-18 (For PIC18F1x20-SO)
pins: 1 IN 1 (in), 2 IN 2 (in), 3 IN 3 (in), 4 IN 4 (in), 5 IN 5 (in), 6 IN 6 (in), 7 IN 7 (in), 8 IN 8 (in), 9 GND (power), 10 COM, 11 OUT 8 (out), 12 OUT 7 (out), 13 OUT 6 (out), 14 OUT 5 (out), 15 OUT 4 (out), 16 OUT 3 (out), 17 OUT 2 (out), 18 OUT 1 (out)

## VARISTOR
designator VR?
Resistor
footprint MISC_Varistor
pins: 1, 2

## W25Q16
designator U?, comment W25Q16xxx
SPI EEPROM
footprint IC_SO-8
pins: 1 ~{CS}, 2 DO/IO1, 3 ~{WP}/IO2, 4 GND, 5 DI/IO0, 6 CLK, 7 ~{HOLD}/IO3, 8 Vcc

## WM8804
designator U?
SPDIF receiver
footprint IC_SSOP20 (For WM8804)
pins: 1 SCLK/GPO (io), 2 GPO0/SWIFMODE (io), 3 SDIN/HWMODE (in), 4 SDOUT/GPO2 (io), 5 CSB/GPO1 (io), 6 ~{RESET} (oc), 7 PVDD (power), 8 PGND (power), 9 CLKOUT (out), 10 XOP, 11 XIN, 12 DOUT (out), 13 DIN (in), 14 BCLK (io), 15 LRCLK (io), 16 MCLK (io), 17 TX0 (out), 18 DGND (power), 19 DVDD (power), 20 RX0 (in)

## XTAL_HC49
designator X?, comment 10MHz
Quartz oscillator
footprint XTAL_HC-49
pins: 1, 2

## XTAL_XG
designator X?, comment value 10MHz  (hidden comment: Crystal)
footprint XTAL_XG (Crystal XG 6x3.5mm)
pins: 1, 2, 3, 4

## ZENER1
designator D?, comment BZV55C36
Zener Diode
footprint DIODE_D400 (Diode)
pins: 1 A, 2 K